# Altium footprint library 691 215 700 0xx.PcbLib: 2 footprints
Each footprint in its own frame and in the unit in brackets; x right, y up, seen from the top. Pads: shape width x height; smd on the part's side, far side on the other; paste and mask are expansions set on the pad; w line width, h text height; cw(c..) or ccw(c..) is an arc to the next point about the centre after c.
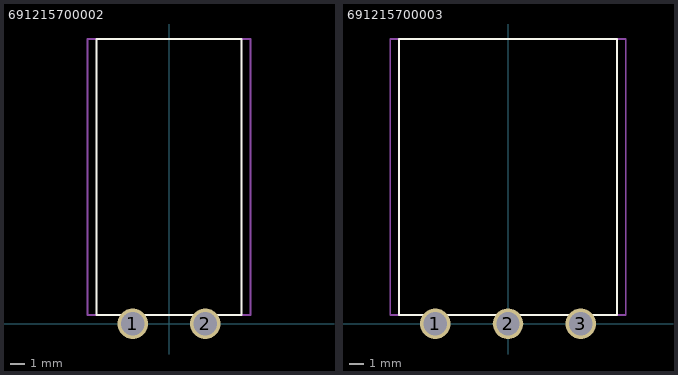
[diagram p0: the footprints below, top view; thin cyan lines are the x and y axes]

## 691215700002 [mm]
height 10.5
pads (2):
  round 2.1 hole 1.6: 1(-2.5,0) 2(2.5,0)
Top Overlay:
  lines w0.127: -5,0.6 -5,19.6 5,19.6 5,0.6 -5,0.6
Mechanical 13:
  lines w0.127: -5.6,0.6 5.6,0.6 5.6,19.6 -5.6,19.6 -5.6,0.6
3D body: height 10.51, standoff -3.99, extent -5.6,-0.4 5.6,19.6

## 691215700003 [mm]
height 10.5
pads (3):
  round 2.1 hole 1.6: 1(-5,0) 2(0,0) 3(5,0)
Top Overlay:
  lines w0.127: -7.5,0.6 -7.5,19.6 7.5,19.6 7.5,0.6 -7.5,0.6
Mechanical 13:
  lines w0.127: -8.1,0.6 -8.1,19.6 8.1,19.6 8.1,0.6 -8.1,0.6
3D body: height 10.51, standoff -3.99, extent -8.1,-0.4 8.1,19.6